# Altium integrated library TT_IntLib.IntLib: 58 symbols (part 2 of 2)
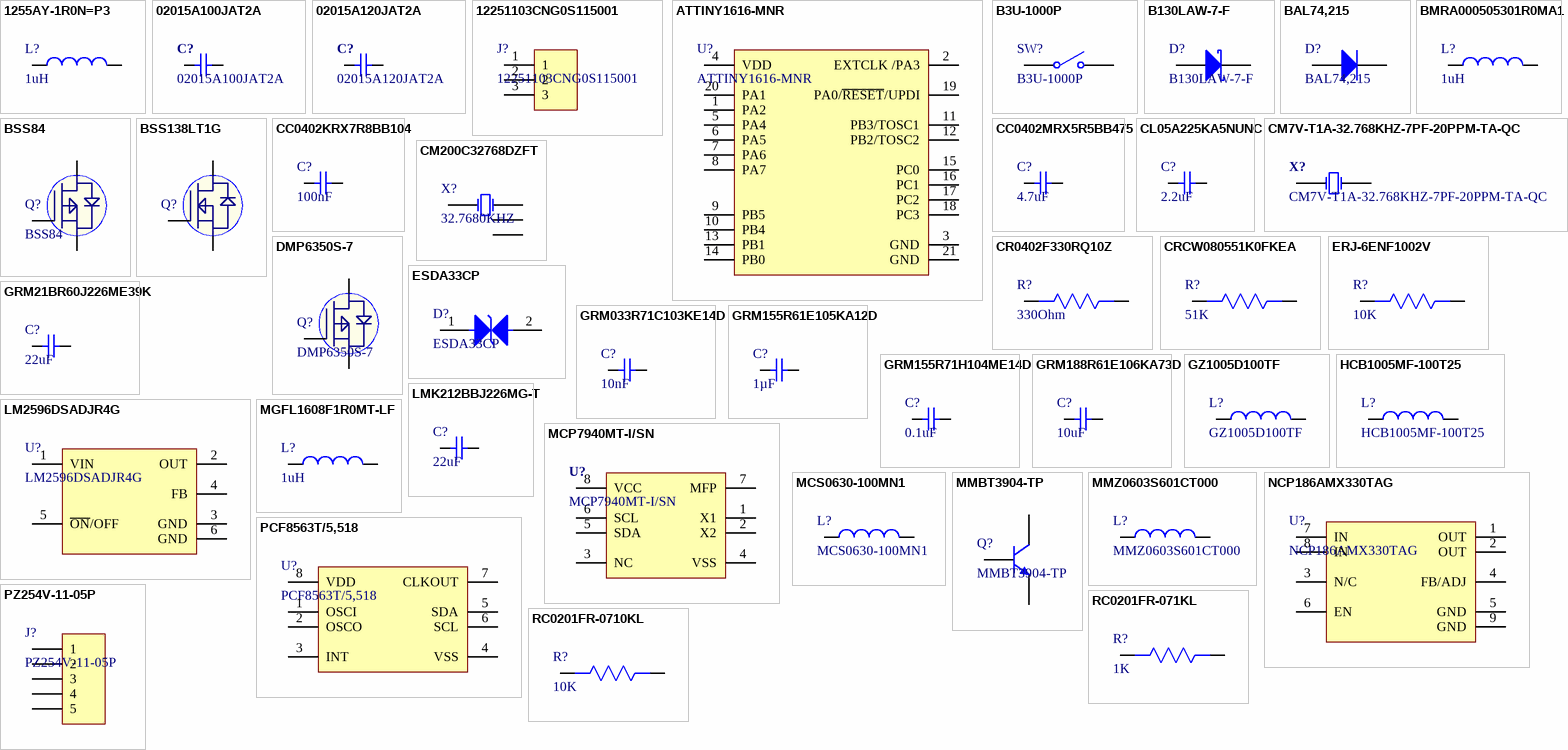
[diagram p2: symbols 1255AY-1R0N=P3 to RC0201FR-0710KL]

## MMBT3904-TP
designator Q?
TRANS NPN 40V 0.2A SOT23; Manufacturer: MCC; Max Power Dissipation: 350mW; Number of Elements: 1; hFE Min: 40; Frequency: 300MHz; Max Collector Current: 200mA; Collector Base Voltage (VCBO): 60V; Emitter Base Voltage (VEBO): 6V; Collector Emitter Saturation Voltage: 300mV; Element Configuration: Single; Current Rating: 100mA; Supplier 1: Digi-Key; Manufacturer Part Number: MMBT3904-TP; RoHS: Yes; Category: BJTs; Stock 1: 659192; Pricing 1: 1=0.10000, 10=0.06300, 25=0.06000, 100=0.03380, 500=0.02656, 1000=0.01844 (USD); Mount: Surface Mount; Case/Package: SOT-23; Number of Pins: 3; Min Operating Temperature: -55°C; Max Operating Temperature: 150°C; Package Quantity: 1; Collector Emitter Voltage (VCEO): 40V; Packaging: Tape and Reel; Transition Frequency: 300MHz; Collector Emitter Breakdown Voltage: 40V; Polarity: NPN; Max Breakdown Voltage: 40V; Power Dissipation: 350mW; Max Frequency: 300MHz; Gain Bandwidth Product: 300MHz; Voltage Rating (DC): 40V; Series: -; Collector-emitter Voltage-Max: 300mV; Length: 3.04mm; Width: 1.4mm; Height: 1.12mm; Radiation Hardening: No; Lead Free: Lead Free; RoHS Compliant: Yes; ComponentLink1URL: https://datasheet.ciiva.com/16291/mmbt3904sot-23-37005-16291911.pdf?src-supplier=Mouser; ComponentLink1Description: https://datasheet.ciiva.com/16291/mmbt3904sot-23-37005-16291911.pdf?src-supplier=Mouser; ComponentLink2URL: https://datasheet.ciiva.com/15139/getdatasheetpartid-251950-15139820.pdf?src-supplier=Verical; ComponentLink2Description: https://datasheet.ciiva.com/15139/getdatasheetpartid-251950-15139820.pdf?src-supplier=Verical; ComponentLink3URL: https://datasheet.ciiva.com/972/mmbt3904sot-23-972515.pdf?src-supplier=Digi-Key; ComponentLink3Description: https://datasheet.ciiva.com/972/mmbt3904sot-23-972515.pdf?src-supplier=Digi-Key; ComponentLink4URL: https://datasheet.ciiva.com/16742/mmbt3904tsot-523-16742101.pdf?src-supplier=Future+Electronics; ComponentLink4Description: https://datasheet.ciiva.com/16742/mmbt3904tsot-523-16742101.pdf?src-supplier=Future+Electronics; ComponentLink5URL: https://datasheet.ciiva.com/972/mmbt3904sot-23-972516.pdf?src-supplier=Digi-Key; ComponentLink5Description: https://datasheet.ciiva.com/972/mmbt3904sot-23-972516.pdf?src-supplier=Digi-Key; ComponentLink6URL: https://datasheet.ciiva.com/14546/70055699-14546053.pdf?src-supplier=Allied+Electronics; ComponentLink6Description: https://datasheet.ciiva.com/14546/70055699-14546053.pdf?src-supplier=Allied+Electronics; Supplier Part Number 1: MMBT3904TPMSCT-ND
footprint SOT-23F
pins: 1 B, 2 E, 3 C

## MMZ0603S601CT000
designator L?
FERRITE BEAD 600 OHM 0201 1LN /; Manufacturer: TDK; Description: TDK   MMZ0603S601CT000   FERRITE BEAD, 600 OHM, 100mA, 0201; Impedance: 600R; Tolerance: 25%; DC Resistance (DCR): 1.45R; Max DC Current: 100mA; Supplier 1: Digi-Key; Manufacturer Part Number: MMZ0603S601CT000; RoHS: Yes; Category: Inductors; Stock 1: 1540; Pricing 1: 1=0.12000, 10=0.09900, 25=0.07680, 50=0.06380, 100=0.05500, 250=0.04400, 500=0.03960, 1000=0.03300, 5000=0.03080 (USD); Mount: Surface Mount; Case/Package: 0201; Core Material: Ferrite; Case Code (Metric): 0603; Case Code (Imperial): 0201; Packaging: Cut Tape; Package Quantity: 15000; Current Rating: 100mA; Length: 0.024inch; Width: 0.012inch; Height: 0.013inch; REACH SVHC: No SVHC; Lead Free: Lead Free; RoHS Compliant: Yes; ComponentLink1URL: https://datasheet.ciiva.com/46381/1795294-46381669.pdf?src-supplier=Element14; ComponentLink1Description: https://datasheet.ciiva.com/46381/1795294-46381669.pdf?src-supplier=Element14; ComponentLink2URL: https://datasheet.ciiva.com/46634/beads-commercial-signal-mmz-en-46634390.pdf?src-supplier=Digi-Key; ComponentLink2Description: https://datasheet.ciiva.com/46634/beads-commercial-signal-mmz-en-46634390.pdf?src-supplier=Digi-Key; ComponentLink3URL: https://datasheet.ciiva.com/48682/beads-commercial-signal-mmz-en-48682603.pdf?src-supplier=Avnet; ComponentLink3Description: https://datasheet.ciiva.com/48682/beads-commercial-signal-mmz-en-48682603.pdf?src-supplier=Avnet; ComponentLink4URL: https://datasheet.ciiva.com/46634/beads-commercial-signal-mmz-en-46634381.pdf?src-supplier=Digi-Key; ComponentLink4Description: https://datasheet.ciiva.com/46634/beads-commercial-signal-mmz-en-46634381.pdf?src-supplier=Digi-Key; Supplier Part Number 1: 445-2146-1-ND
footprint IND 0201
pins: 1, 2

## NCP186AMX330TAG
designator U?
IC REG LINEAR 3.3V 1A 8XDFN; Manufacturer: ON Semiconductor; Dropout Voltage: 95mV; Number of Regulators: 1; Min Current Limit: 1.1A; Supplier 1: Digi-Key; Manufacturer Part Number: NCP186AMX330TAG; Stock 1: 5995; Pricing 1: 1=0.48, 10=0.39, 25=0.3564, 100=0.2405, 250=0.199, 500=0.18242, 1000=0.13682 (USD); Mount: Surface Mount; Number of Pins: 8; Min Operating Temperature: -40°C; Max Operating Temperature: 125°C; Packaging: Tape and Reel; Output Voltage: 3.3V; Output Current: 1A; Lead Free: Lead Free; ComponentLink1URL: http://www.farnell.com/datasheets/2236905.pdf?src-supplier=Farnell; ComponentLink1Description: http://www.farnell.com/datasheets/2236905.pdf?src-supplier=Farnell; ComponentLink2URL: http://www.farnell.com/datasheets/2236905.pdf?src-supplier=Newark; ComponentLink2Description: http://www.farnell.com/datasheets/2236905.pdf?src-supplier=Newark; ComponentLink3URL: http://www.onsemi.com/pub/Collateral/NCP186-D.PDF?src-supplier=Digi-Key; ComponentLink3Description: http://www.onsemi.com/pub/Collateral/NCP186-D.PDF?src-supplier=Digi-Key; ComponentLink4URL: https://www.onsemi.com/pub/Collateral/NCP186-D.PDF?src-supplier=Digi-Key; ComponentLink4Description: https://www.onsemi.com/pub/Collateral/NCP186-D.PDF?src-supplier=Digi-Key; Supplier Part Number 1: NCP186AMX330TAGOSCT-ND
footprint NCP186AMX330TAG
pins: 1 OUT, 2 OUT, 3 N/C, 4 FB/ADJ, 5 GND (power), 6 EN, 7 IN, 8 IN, 9 GND (power)

## PCF8563T/5,518
designator U?
IC RTC CLK/CALENDAR I2C 8-SOIC
footprint 8-SO (IC RTC CLK/CALENDAR I2C 8-SOIC)
pins: 1 OSCI, 2 OSCO, 3 INT, 4 VSS, 5 SDA, 6 SCL, 7 CLKOUT, 8 VDD

## PZ254V-11-05P
designator J?
Pin Header 5 1 right-angle; Manufacturer: XFCN; Brand Category: Made In Asia Brands; Pitch: 2.54; Packaging: Bag-packed; Connector Type: Pin Header; Number of Pins: 5; Number of Rows: 1
footprint PZ254V-11-05P (Through Hole,P=2.54mm)
pins: 1, 2, 3, 4, 5

## RC0201FR-071KL
designator R?, comment 1K
RES SMD 1K OHM 1% 1/20W 0201; Manufacturer: Yageo; Manufacturer Part Number: RC0201FR-071KL; Resistance: 1kR; Temperature Coefficient: 200ppm/°C; Power Rating: 50mW; Voltage Rating: 25V; Supplier 1: Digi-Key; RoHS: Yes; Category: Chip SMD Resistors; Stock 1: 53678; Pricing 1: 1=0.10000, 10=0.04000, 100=0.01630, 1000=0.00732, 2500=0.00635, 5000=0.00525 (USD); Case/Package: 0201; Contact Plating: Tin,Matte; Case Code (Metric): 0603; Case Code (Imperial): 0201; Min Operating Temperature: -55°C; Max Operating Temperature: 125°C; Tolerance: 1%; Resistor Type: Thick Film; Package Quantity: 10000; Packaging: Tape and Reel; Number of Terminations: 2; Termination: SMD/SMT; Max Power Dissipation: 50mW; Working Voltage: 25V; Features: Moisture Resistant; Series: RC; Resistance Tolerance: 1%; Technology: THICK FILM; Construction: Rectangular; Length: 0.024inch; Width: 0.012inch; Height: 0.01inch; Depth: 0.3mm; Radiation Hardening: No; REACH SVHC: Unknown; Military Standard: Not; Lead Free: Lead Free; RoHS Compliant: Yes; ComponentLink1URL: https://datasheet.ciiva.com/28419/pyu-rc0201-51-rohs-l-8-28419637.pdf?src-supplier=Avnet+Europe; ComponentLink1Description: https://datasheet.ciiva.com/28419/pyu-rc0201-51-rohs-l-8-28419637.pdf?src-supplier=Avnet+Europe; ComponentLink2URL: https://datasheet.ciiva.com/16855/pyu-rc0201-51-rohs-l-8-16855830.pdf?src-supplier=Avnet+Europe; ComponentLink2Description: https://datasheet.ciiva.com/16855/pyu-rc0201-51-rohs-l-8-16855830.pdf?src-supplier=Avnet+Europe; ComponentLink3URL: https://datasheet.ciiva.com/22698/1563626-22698505.pdf?src-supplier=Element14; ComponentLink3Description: https://datasheet.ciiva.com/22698/1563626-22698505.pdf?src-supplier=Element14; ComponentLink4URL: https://datasheet.ciiva.com/29721/pyu-r-int-thick-7-29721195.pdf?src-supplier=Digi-Key; ComponentLink4Description: https://datasheet.ciiva.com/29721/pyu-r-int-thick-7-29721195.pdf?src-supplier=Digi-Key; ComponentLink5URL: https://datasheet.ciiva.com/7672/1563626-7672204.pdf?src-supplier=Element14; ComponentLink5Description: https://datasheet.ciiva.com/7672/1563626-7672204.pdf?src-supplier=Element14; ComponentLink6URL: https://datasheet.ciiva.com/29721/pyu-r-int-thick-7-29721196.pdf?src-supplier=Digi-Key; ComponentLink6Description: https://datasheet.ciiva.com/29721/pyu-r-int-thick-7-29721196.pdf?src-supplier=Digi-Key; ComponentLink7URL: https://datasheet.ciiva.com/8896/pyu-rc0201-51-rohs-l-8-8896174.pdf?src-supplier=Avnet; ComponentLink7Description: https://datasheet.ciiva.com/8896/pyu-rc0201-51-rohs-l-8-8896174.pdf?src-supplier=Avnet; Supplier Part Number 1: 311-1KMCT-ND
footprint Res-0201
pins: 1, 2

## RC0201FR-0710KL
designator R?, comment 10K
RES SMD 10K OHM 1% 1/20W 0201 /; Manufacturer: Yageo; Manufacturer Part Number: RC0201FR-0710KL; Temperature Coefficient: 200ppm/°C; Resistance: 10kR; Max Power Dissipation: 50mW; Working Voltage: 25V; Supplier 1: Digi-Key; RoHS: Yes; Category: Chip SMD Resistors; Stock 1: 6892350; Pricing 1: 1=0.10000, 10=0.03600, 100=0.01480, 1000=0.00665, 2500=0.00577, 5000=0.00477 (USD); Case/Package: 0201; Number of Pins: 2; Contact Plating: Tin,Matte; Weight: 6E-06oz; Case Code (Imperial): 0201; Case Code (Metric): 0603; Min Operating Temperature: -55°C; Max Operating Temperature: 125°C; Resistor Type: Thick Film; Tolerance: 1%; Features: Moisture Resistant; Termination: SMD/SMT; Number of Terminations: 2; Power Rating: 50mW; Voltage Rating: 25V; Packaging: Tape and Reel; Package Quantity: 1; Voltage Rating (DC): 25V; Length: 0.6mm; Width: 0.3mm; Height: 0.01inch; Depth: 0.3mm; Radiation Hardening: No; REACH SVHC: No SVHC; Military Standard: Not; Lead Free: Lead Free; ComponentLink1URL: https://datasheet.ciiva.com/2467/pyu-r-int-thick-7-2467109.pdf?src-supplier=Digi-Key; ComponentLink1Description: https://datasheet.ciiva.com/2467/pyu-r-int-thick-7-2467109.pdf?src-supplier=Digi-Key; ComponentLink2URL: https://datasheet.ciiva.com/2467/pyu-r-int-thick-7-2467110.pdf?src-supplier=Digi-Key; ComponentLink2Description: https://datasheet.ciiva.com/2467/pyu-r-int-thick-7-2467110.pdf?src-supplier=Digi-Key; ComponentLink3URL: https://datasheet.ciiva.com/2467/pyu-r-int-thick-7-2467111.pdf?src-supplier=Digi-Key; ComponentLink3Description: https://datasheet.ciiva.com/2467/pyu-r-int-thick-7-2467111.pdf?src-supplier=Digi-Key; ComponentLink4URL: https://datasheet.ciiva.com/7660/1421516-7660807.pdf?src-supplier=Element14; ComponentLink4Description: https://datasheet.ciiva.com/7660/1421516-7660807.pdf?src-supplier=Element14; ComponentLink5URL: https://datasheet.ciiva.com/8891/pyu-rc0201-51-rohs-l-8-8891384.pdf?src-supplier=Avnet; ComponentLink5Description: https://datasheet.ciiva.com/8891/pyu-rc0201-51-rohs-l-8-8891384.pdf?src-supplier=Avnet; ComponentLink6URL: https://datasheet.ciiva.com/28405/pyu-rc0201-51-rohs-l-8-28405609.pdf?src-supplier=Avnet+Europe; ComponentLink6Description: https://datasheet.ciiva.com/28405/pyu-rc0201-51-rohs-l-8-28405609.pdf?src-supplier=Avnet+Europe; ComponentLink7URL: https://datasheet.ciiva.com/26829/getdatasheetpartid-421074-26829851.pdf?src-supplier=Verical; ComponentLink7Description: https://datasheet.ciiva.com/26829/getdatasheetpartid-421074-26829851.pdf?src-supplier=Verical; ComponentLink8URL: https://datasheet.ciiva.com/46391/1421516-46391339.pdf?src-supplier=Element14; ComponentLink8Description: https://datasheet.ciiva.com/46391/1421516-46391339.pdf?src-supplier=Element14; ComponentLink9URL: https://datasheet.ciiva.com/16855/pyu-rc0201-51-rohs-l-8-16855789.pdf?src-supplier=Avnet+Europe; ComponentLink9Description: https://datasheet.ciiva.com/16855/pyu-rc0201-51-rohs-l-8-16855789.pdf?src-supplier=Avnet+Europe; Supplier Part Number 1: 311-10.0KMCT-ND
footprint Res-0201
pins: 1, 2

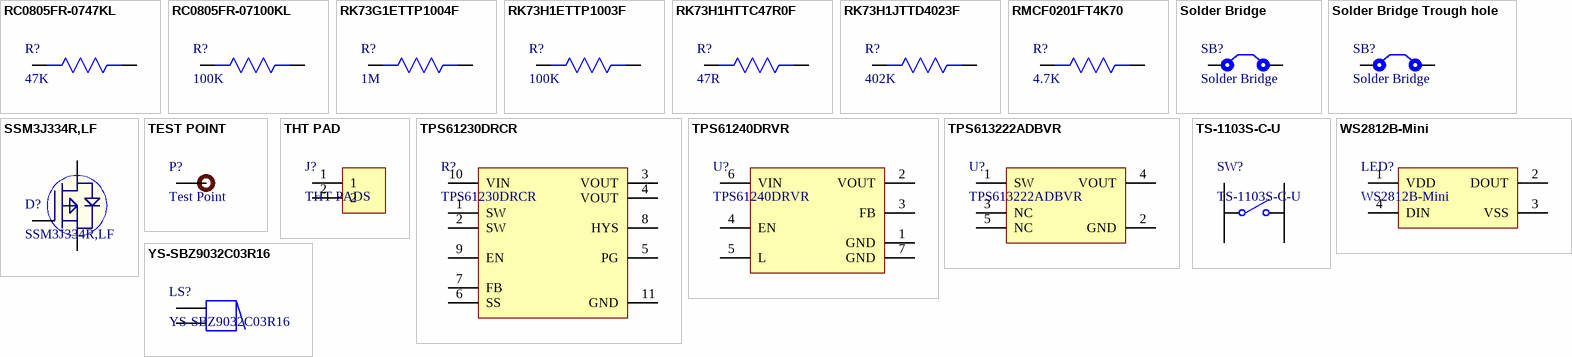
[diagram p1: symbols RC0805FR-0747KL to YS-SBZ9032C03R16]

## RC0805FR-0747KL
designator R?, comment 47K
RES SMD 47K OHM 1% 1/8W 0805 /; Manufacturer: Yageo; Manufacturer Part Number: RC0805FR-0747KL; Resistance: 47kR; Temperature Coefficient: 100ppm/°C; Voltage Rating (DC): 150V; Power Rating: 125mW; Supplier 1: Digi-Key; RoHS: Yes; Category: Chip SMD Resistors; Stock 1: 522067; Pricing 1: 1=0.10000, 10=0.04000, 100=0.01620, 1000=0.00726, 2500=0.00630 (USD); Case/Package: 0805; Number of Pins: 2; Contact Plating: Tin,Matte; Case Code (Imperial): 0805; Case Code (Metric): 2012; Size Code: 0805; Min Operating Temperature: -55°C; Max Operating Temperature: 155°C; Tolerance: 1%; Resistor Type: Thick Film; Packaging: Tape and Reel; Number of Terminations: 2; Voltage Rating: 150V; Termination: SMD/SMT; Features: Moisture Resistant; Series: RC; Max Power Dissipation: 125mW; Resistance Tolerance: 1%; Length: 2mm; Width: 1.25mm; Height: 0.5mm; Depth: 1.25mm; Radiation Hardening: No; REACH SVHC: Unknown; Lead Free: Lead Free; RoHS Compliant: Yes; ComponentLink1URL: https://datasheet.ciiva.com/7941/1686128-7941799.pdf?src-supplier=Element14; ComponentLink1Description: https://datasheet.ciiva.com/7941/1686128-7941799.pdf?src-supplier=Element14; ComponentLink2URL: https://datasheet.ciiva.com/7941/444164-7941800.pdf?src-supplier=Element14; ComponentLink2Description: https://datasheet.ciiva.com/7941/444164-7941800.pdf?src-supplier=Element14; ComponentLink3URL: https://datasheet.ciiva.com/7941/444164-7941801.pdf?src-supplier=Element14; ComponentLink3Description: https://datasheet.ciiva.com/7941/444164-7941801.pdf?src-supplier=Element14; ComponentLink4URL: https://datasheet.ciiva.com/16742/rc0805-16742265.pdf?src-supplier=Future+Electronics; ComponentLink4Description: https://datasheet.ciiva.com/16742/rc0805-16742265.pdf?src-supplier=Future+Electronics; ComponentLink5URL: https://datasheet.ciiva.com/46447/444164-46447581.pdf?src-supplier=Element14; ComponentLink5Description: https://datasheet.ciiva.com/46447/444164-46447581.pdf?src-supplier=Element14; Supplier Part Number 1: 311-47.0KCRCT-ND
footprint RES 0805 (SMD 0805)
pins: 1, 2

## RC0805FR-07100KL
designator R?, comment 100K
RES SMD 100K OHM 1% 1/8W 0805 /; Manufacturer: Yageo; Manufacturer Part Number: RC0805FR-07100KL; Resistance: 100kR; Temperature Coefficient: 100ppm/°C; Power Rating: 125mW; Voltage Rating (DC): 150V; Supplier 1: Digi-Key; RoHS: Yes; Category: Chip SMD Resistors; Stock 1: 1870830; Pricing 1: 1=0.10000, 10=0.04000, 100=0.01620, 1000=0.00726, 2500=0.00630 (USD); Case/Package: 0805; Number of Pins: 2; Case Code (Metric): 2012; Case Code (Imperial): 0805; Size Code: 0805; Min Operating Temperature: -55°C; Max Operating Temperature: 155°C; Resistor Type: Thick Film; Tolerance: 1%; Packaging: Tape and Reel; Voltage Rating: 150V; Package Quantity: 1; Number of Terminations: 2; Termination: SMD/SMT; Max Power Dissipation: 125mW; Features: Moisture Resistant; Series: RC; Construction: Rectangular; Resistance Tolerance: 1%; Technology: THICK FILM; Length: 2mm; Width: 0.049inch; Height: 0.024inch; Depth: 1.25mm; Lead Pitch: 0.4mm; REACH SVHC: Unknown; Lead Free: Lead Free; RoHS Compliant: Yes; Military Standard: Not; ComponentLink1URL: https://datasheet.ciiva.com/11808/0900766b8106beab-11808858.pdf?src-supplier=RSComponents; ComponentLink1Description: https://datasheet.ciiva.com/11808/0900766b8106beab-11808858.pdf?src-supplier=RSComponents; ComponentLink2URL: https://datasheet.ciiva.com/2457/pyu-r-int-thick-7-2457017.pdf?src-supplier=Digi-Key; ComponentLink2Description: https://datasheet.ciiva.com/2457/pyu-r-int-thick-7-2457017.pdf?src-supplier=Digi-Key; ComponentLink3URL: https://datasheet.ciiva.com/12667/rc0805-12667001.pdf?src-supplier=Mouser; ComponentLink3Description: https://datasheet.ciiva.com/12667/rc0805-12667001.pdf?src-supplier=Mouser; ComponentLink4URL: https://datasheet.ciiva.com/2457/pyu-r-int-thick-7-2457018.pdf?src-supplier=Digi-Key; ComponentLink4Description: https://datasheet.ciiva.com/2457/pyu-r-int-thick-7-2457018.pdf?src-supplier=Digi-Key; ComponentLink5URL: https://datasheet.ciiva.com/16747/rc0805-16747226.pdf?src-supplier=Future+Electronics; ComponentLink5Description: https://datasheet.ciiva.com/16747/rc0805-16747226.pdf?src-supplier=Future+Electronics; ComponentLink6URL: https://datasheet.ciiva.com/7941/1697719-7941678.pdf?src-supplier=Element14; ComponentLink6Description: https://datasheet.ciiva.com/7941/1697719-7941678.pdf?src-supplier=Element14; ComponentLink7URL: https://datasheet.ciiva.com/22747/444164-22747534.pdf?src-supplier=Element14; ComponentLink7Description: https://datasheet.ciiva.com/22747/444164-22747534.pdf?src-supplier=Element14; ComponentLink8URL: https://datasheet.ciiva.com/2457/pyu-r-int-thick-7-2457019.pdf?src-supplier=Digi-Key; ComponentLink8Description: https://datasheet.ciiva.com/2457/pyu-r-int-thick-7-2457019.pdf?src-supplier=Digi-Key; ComponentLink9URL: https://datasheet.ciiva.com/7660/38627-7660796.pdf?src-supplier=Element14; ComponentLink9Description: https://datasheet.ciiva.com/7660/38627-7660796.pdf?src-supplier=Element14; ComponentLink10URL: https://datasheet.ciiva.com/7941/1697719-7941676.pdf?src-supplier=Element14; ComponentLink10Description: https://datasheet.ciiva.com/7941/1697719-7941676.pdf?src-supplier=Element14; ComponentLink11URL: https://datasheet.ciiva.com/7941/1686128-7941677.pdf?src-supplier=Element14; ComponentLink11Description: https://datasheet.ciiva.com/7941/1686128-7941677.pdf?src-supplier=Element14; Supplier Part Number 1: 311-100KCRCT-ND
footprint RES 0805 (SMD 0805)
pins: 1, 2

## RK73G1ETTP1004F
designator R?, comment 1M
RES 1M OHM 1% 1/10W 0402 /; Manufacturer: KOA Speer; Manufacturer Part Number: RK73G1ETTP1004F; Resistance: 4R; Supplier 1: Digi-Key; RoHS: Yes; Category: Chip SMD Resistors; Stock 1: 8474; Pricing 1: 1=0.29000, 10=0.24200, 100=0.09460, 1000=0.03960, 2500=0.03630, 5000=0.03300 (USD); Case/Package: 0402; Case Code (Imperial): 0402; Case Code (Metric): 1005; Packaging: Tape and Reel; Package Quantity: 10000; Termination: SMD/SMT; Series: RK73G; Length: 1mm; Width: 0.5mm; Height: 0.35mm; RoHS Compliant: Yes; ComponentLink1URL: http://www.mouser.com/ds/2/219/RK73G-9863.pdf?src-supplier=Mouser; ComponentLink1Description: http://www.mouser.com/ds/2/219/RK73G-9863.pdf?src-supplier=Mouser; Supplier Part Number 1: 2019-RK73G1ETTP1004FCT-ND
footprint Res0402
pins: 1, 2

## RK73H1ETTP1003F
designator R?, comment 100K
RES 100K OHM 1% 1/10W 0402 /; Manufacturer: KOA Speer; Manufacturer Part Number: RK73H1ETTP1003F; Manufacturer Series: RK73H; Voltage Rating: 50V; Resistance: 100kR; Power Rating: 63mW; Temperature Coefficient: 100ppm/°C; Additional Feature: PRECISION; Supplier 1: Digi-Key; RoHS: Yes; Category: Chip SMD Resistors; Stock 1: 373472; Pricing 1: 1=0.10000, 10=0.02400, 100=0.00970, 1000=0.00437, 2500=0.00380, 5000=0.00314 (USD); Case/Package: 0402; Case Code (Imperial): 0402; Case Code (Metric): 1005; Package Shape: Rectangular; Size Code: 0402; Terminal Finish: Tin; Min Operating Temperature: -55°C; Max Operating Temperature: 155°C; Packaging: Tape and Reel; Package Quantity: 10000; Tolerance: 1%; Resistor Type: Thick Film; Termination: SMD/SMT; Working Voltage: 50V; Voltage Rating (DC): 50V; Series: RK73H; Technology: METAL GLAZE/THICK FILM; Construction: Rectangular; Length: 1mm; Width: 0.5mm; Height: 0.35mm; Depth: 0.5mm; Military Standard: Not; Lead Free: Lead Free; RoHS Compliant: Yes; ComponentLink1URL: http://www.mouser.com/ds/2/219/RK73H-5715.pdf?src-supplier=Mouser; ComponentLink1Description: http://www.mouser.com/ds/2/219/RK73H-5715.pdf?src-supplier=Mouser; ComponentLink2URL: http://www.jameco.com/Jameco/Products/ProdDS/1882455.pdf?src-supplier=Jameco; ComponentLink2Description: http://www.jameco.com/Jameco/Products/ProdDS/1882455.pdf?src-supplier=Jameco; ComponentLink3URL: http://components.arrow.com/part/dataview/39721605S6492599N5146?src-supplier=Arrow+Electronics; ComponentLink3Description: http://components.arrow.com/part/dataview/39721605S6492599N5146?src-supplier=Arrow+Electronics; ComponentLink4URL: https://www.verical.com/server-webapp/html/getDatasheet?partID=26325&src-supplier=Verical; ComponentLink4Description: https://www.verical.com/server-webapp/html/getDatasheet?partID=26325&src-supplier=Verical; Supplier Part Number 1: 2019-RK73H1ETTP1003FCT-ND
footprint Res0402
pins: 1, 2

## RK73H1HTTC47R0F
designator R?, comment 47R
RES 47 OHM 1% 1/20W 0201; Manufacturer: KOA Speer; Manufacturer Part Number: RK73H1HTTC47R0F; Power Rating: 50mW; Voltage Rating: 25V; Temperature Coefficient: 200ppm/°C; Supplier 1: Digi-Key; RoHS: Yes; Category: Chip SMD Resistors; Stock 1: 7660; Pricing 1: 1=0.10000, 10=0.07500, 100=0.03050, 1000=0.01370, 2500=0.01189, 5000=0.00982 (USD); Case/Package: 0201; Case Code (Imperial): 0201; Case Code (Metric): 0603; Min Operating Temperature: -55°C; Max Operating Temperature: 125°C; Resistance: 47R; Tolerance: 1%; Packaging: Tape and Reel; Resistor Type: Thick Film; Termination: SMD/SMT; Voltage Rating (DC): 25V; Series: RK73H; Construction: Rectangular; Length: 0.6mm; Depth: 0.3mm; Military Standard: Not; RoHS Compliant: Yes; ComponentLink1URL: https://datasheet.ciiva.com/5552/rk73h-5552712.pdf?src-supplier=Mouser; ComponentLink1Description: https://datasheet.ciiva.com/5552/rk73h-5552712.pdf?src-supplier=Mouser; Supplier Part Number 1: 2019-RK73H1HTTC47R0FCT-ND
footprint Res-0201
pins: 1, 2

## RK73H1JTTD4023F
designator R?, comment 402K
RES 402K OHM 1% 1/10W 0603 /; Manufacturer: KOA Speer; Manufacturer Part Number: RK73H1JTTD4023F; Resistance: 402kR; Power Rating: 100mW; Voltage Rating: 50V; Temperature Coefficient: 100ppm/°C; Supplier 1: Digi-Key; RoHS: Yes; Category: Chip SMD Resistors; Stock 1: 50000; Pricing 1: 1=0.10000, 10=0.02200, 100=0.00910, 1000=0.00408, 2500=0.00354 (USD); Case/Package: 0603; Case Code (Imperial): 0603; Case Code (Metric): 1608; Min Operating Temperature: -55°C; Max Operating Temperature: 155°C; Tolerance: 1%; Packaging: Tape and Reel; Resistor Type: Thick Film; Termination: SMD/SMT; Voltage Rating (DC): 50V; Series: RK73H; Construction: Rectangular; Length: 1.6mm; Depth: 0.8mm; Military Standard: Not; Lead Free: Lead Free; RoHS Compliant: Yes; ComponentLink1URL: https://datasheet.ciiva.com/5553/rk73h-5553241.pdf?src-supplier=Mouser; ComponentLink1Description: https://datasheet.ciiva.com/5553/rk73h-5553241.pdf?src-supplier=Mouser; Supplier Part Number 1: 2019-RK73H1JTTD4023FCT-ND
footprint Res0603
pins: 1, 2

## RMCF0201FT4K70
designator R?, comment 4.7K
RES 4.7K OHM 1% 1/20W 0201; Manufacturer: Stackpole Electronics; Manufacturer Part Number: RMCF0201FT4K70; Max Power Dissipation: 50mW; Temperature Coefficient: 200ppm/°C; Resistance: 4.7kR; Supplier 1: Digi-Key; RoHS: Yes; Category: Chip SMD Resistors; Stock 1: 325790; Pricing 1: 1=0.10000, 10=0.02300, 100=0.00940, 1000=0.00424, 2500=0.00368, 5000=0.00304 (USD); Mount: Surface Mount; Case/Package: 0201; Case Code (Metric): 0603; Contact Plating: Tin,Matte; Case Code (Imperial): 0201; Min Operating Temperature: -55°C; Max Operating Temperature: 125°C; Packaging: Tape and Reel; Tolerance: 1%; Resistor Type: Thick Film; Number of Terminations: 2; Length: 0.024inch; Width: 0.012inch; Height: 0.009inch; Radiation Hardening: No; ComponentLink1URL: https://www.seielect.com/catalog/SEI-Packaging.pdf?src-supplier=Digi-Key; ComponentLink1Description: https://www.seielect.com/catalog/SEI-Packaging.pdf?src-supplier=Digi-Key; ComponentLink2URL: https://www.seielect.com/catalog/SEI-RMCF_RMCP.pdf?src-supplier=Avnet; ComponentLink2Description: https://www.seielect.com/catalog/SEI-RMCF_RMCP.pdf?src-supplier=Avnet; Supplier Part Number 1: RMCF0201FT4K70CT-ND
footprint Res-0201
pins: 1, 2

## Solder Bridge
designator SB?
Solder Bridge ON
footprint Solder Bridge (Solder Bridge ON)
pins: 1, 2

## Solder Bridge Trough hole
designator SB?, comment Solder Bridge
Solder Bridge ON
footprint Solder Bridge throgh hole
pins: 1, 2

## SSM3J334R,LF
designator D?
MOSFET P-CH 30V 4A SOT23F; Manufacturer: Toshiba; Number of Elements: 1; Element Configuration: Single; Drain to Source Breakdown Voltage: -30V; Rds On Max: 71mR; Input Capacitance: 280pF; Gate to Source Voltage (Vgs): 20V; Drain to Source Resistance: 136mR; Power Dissipation: 1W; Supplier 1: Digi-Key; Manufacturer Part Number: SSM3J334R,LF; RoHS: Yes; Category: MOSFETs; Stock 1: 79343; Pricing 1: 1=0.47000, 10=0.33100, 25=0.30800, 100=0.16720, 500=0.13640, 1000=0.10120 (USD); Mount: Surface Mount; Case/Package: SOT-23-3; Number of Pins: 3; Min Operating Temperature: -55°C; Max Operating Temperature: 150°C; Packaging: Tape and Reel; Package Quantity: 1; Drain to Source Voltage (Vdss): 30V; Continuous Drain Current (ID): 4A; Max Power Dissipation: 1W; ComponentLink1URL: https://datasheet.ciiva.com/6375/ssm3j334r-datasheet-en-20140301-6375723.pdf?src-supplier=Digi-Key; ComponentLink1Description: https://datasheet.ciiva.com/6375/ssm3j334r-datasheet-en-20140301-6375723.pdf?src-supplier=Digi-Key; ComponentLink2URL: https://datasheet.ciiva.com/6373/ssm3j334r-datasheet-en-20140301-6373837.pdf?src-supplier=Digi-Key; ComponentLink2Description: https://datasheet.ciiva.com/6373/ssm3j334r-datasheet-en-20140301-6373837.pdf?src-supplier=Digi-Key; Supplier Part Number 1: SSM3J334RLFCT-ND
footprint SOT-23F
pins: 1 G, 2 S, 3 D

## TEST POINT
designator P?, comment Test Point
Test Point ON
footprint TEST POINT
pins: 1

## THT PAD
designator J?, comment THT PADS
footprint THT PAD
pins: 1, 2

## TPS61230DRCR
designator R?
IC REG BOOST ADJ 4A 10VSON /; Manufacturer: Texas Instruments; Number of Outputs: 1; Output Voltage: 5.5V; Max Output Current: 2.1A; Min Input Voltage: 2.3V; Efficiency: 96%; Min Output Voltage: 2.5V; Switching Frequency: 2MHz; Synchronous Rectifier: Yes; Quiescent Current: 35uA; Output Type: Adjustable; Output Configuration: Positive; Supplier 1: Digi-Key; Manufacturer Part Number: TPS61230DRCR; RoHS: Yes; Category: Power Supply Modules; Stock 1: 42459; Pricing 1: 1=2.61000, 10=2.34800, 25=2.21520, 100=1.77230, 250=1.55080, 500=1.50648, 1000=1.19632 (USD); Number of Pins: 10; Weight: 0.001058oz; Contact Plating: Gold; Min Operating Temperature: -40°C; Max Operating Temperature: 85°C; Max Input Voltage: 5.5V; Packaging: Tape and Reel; Max Output Voltage: 5.5V; Output Current: 2.1A; Package Quantity: 3000; Topology: Boost; Operating Supply Voltage: 5.5V; Length: 3.1mm; Width: 3.1mm; Height: 0.95mm; Radiation Hardening: No; REACH SVHC: No SVHC; Lead Free: Lead Free; RoHS Compliant: Yes; ComponentLink1URL: https://datasheet.ciiva.com/48475/tps61230-48475574.pdf?src-supplier=Avnet; ComponentLink1Description: https://datasheet.ciiva.com/48475/tps61230-48475574.pdf?src-supplier=Avnet; Supplier Part Number 1: 296-37761-1-ND
footprint 10-VSON (3x3) (IC REG BOOST ADJ 4A 10VSON)
pins: 1 SW, 2 SW, 3 VOUT, 4 VOUT, 5 PG, 6 SS, 7 FB, 8 HYS, 9 EN, 10 VIN, 11 GND

## TPS61240DRVR
designator U?
IC REG BOOST SYNC 5V 0.45A 6SON; Manufacturer: Texas Instruments; Number of Outputs: 1; Max Output Current: 450mA; Efficiency: 90%; Switching Frequency: 3.5MHz; Nominal Supply Current: 200uA; Min Supply Voltage: 2.3V; Max Input Voltage: 5.5V; Synchronous Rectifier: Yes; Quiescent Current: 30uA; Output Type: Fixed; Output Configuration: Positive; Supplier 1: Digi-Key; Manufacturer Part Number: TPS61240DRVR; RoHS: Yes; Category: Voltage Regulators - Switching; Stock 1: 697; Pricing 1: 1=1.16000, 10=1.03800, 25=0.98560, 100=0.75680, 250=0.66880, 500=0.63360, 1000=0.49280 (USD); Number of Pins: 6; Weight: 0.000342oz; Contact Plating: Gold; Min Operating Temperature: -40°C; Max Operating Temperature: 85°C; Packaging: Tape and Reel; Output Voltage: 5V; Output Current: 450mA; Package Quantity: 3000; Min Input Voltage: 2.3V; Min Output Voltage: 5V; Max Output Voltage: 5V; Topology: Boost; Operating Supply Voltage: 5.5V; Radiation Hardening: No; Lead Free: Lead Free; ComponentLink1URL: https://datasheet.ciiva.com/2034/tps61240-2034192.pdf?src-supplier=Digi-Key; ComponentLink1Description: https://datasheet.ciiva.com/2034/tps61240-2034192.pdf?src-supplier=Digi-Key; Supplier Part Number 1: 296-39437-1-ND
footprint TPS61240DRVR (IC REG BOOST 5V 500MA 6SON)
pins: 1 GND, 2 VOUT, 3 FB, 4 EN, 5 L , 6 VIN , 7 GND

## TPS613222ADBVR
designator U?
IC REG BOOST 5V 2.5A SOT23-5 /; Manufacturer: Texas Instruments; Output Type: Fixed; Output Configuration: Positive; Number of Outputs: 1; Min Input Voltage: 900mV; Max Input Voltage: 5.5V; Switching Frequency: 2MHz; Synchronous Rectifier: Yes; Supplier 1: Digi-Key; Manufacturer Part Number: TPS613222ADBVR; RoHS: Yes; Category: Voltage Regulators - Switching; Stock 1: 14850; Pricing 1: 1=0.56000, 10=0.47700, 25=0.44520, 100=0.33070, 250=0.27984, 500=0.26712, 1000=0.19716 (USD); Mount: Surface Mount; Case/Package: SOT-23-5; Min Operating Temperature: -40°C; Max Operating Temperature: 85°C; Topology: Boost; Packaging: Tape and Reel; Min Output Voltage: 5V; Output Current: 2.5A; RoHS Compliant: Yes; ComponentLink1URL: https://datasheet.ciiva.com/70834/tps61322-70834095.pdf?src-supplier=Digi-Key; ComponentLink1Description: https://datasheet.ciiva.com/70834/tps61322-70834095.pdf?src-supplier=Digi-Key; Supplier Part Number 1: 296-50503-1-ND
footprint SOT-23-5 (IC REG BOOST 5V 2.5A SOT23-5)
pins: 1 SW, 2 GND, 3 NC, 4 VOUT, 5 NC

## TS-1103S-C-U
designator SW?
SPST 50mA @ 12VDC 260gf Tactile Switches; Manufacturer: XKB Connectivity; Actuator Type: Round Button; Outline: 12.00mm x 12.00mm; Switch Height: 11.50mm; Package: SMD; Circuit: SPST; ComponentLink1Description: LCSC; ComponentLink1URL: https://lcsc.com/product-detail/Tactile-Switches_XKB-Connectivity-TS-1103S-C-U_C318846.html
footprint TS-1103S-C-U (SPST 50mA @ 12VDC Vertical Round Button 260gf SMD Tactile Switches RoHS)
pins: 1 NO, 2 NO, 3 COMMON, 4 COMMON

## WS2812B-Mini
designator LED?
SMD,3.5x3.5mm Light Emitting Diodes (LED) RoHS; Manufacturer: Worldsemi; ComponentLink1Description: LCSC; ComponentLink1URL: *https://lcsc.com/product-detail/Light-Emitting-Diodes-LED_Worldsemi-WS2812B-Mini_C527089.html; Package: SMD,3.5x3.5mm; Parameter 1: *
footprint WS2812B-Mini (SMD,3.5x3.5mm Light Emitting Diodes (LED) RoHS)
pins: 1 VDD, 2 DOUT, 3 VSS, 4 DIN

## YS-SBZ9032C03R16
designator LS?
NO 2700Hz 85dB @ 3V, 10cm 3V Φ9mm SMD,9x3.2mm Buzzers RoHS; Manufacturer: Fengming; Operating Voltage: 2 ~ 4V; Package: SMD,9x3.2mm; Frequency - Self Resonant: 2700Hz; Rated Voltage: 3V
footprint YS-SBZ9032C03R16 (NO 2700Hz 85dB @ 3V, 10cm 3V F9mm SMD,9x3.2mm Buzzers RoHS)
pins: 1, 2